# Altium schematic symbol library B39162B3913U410.SchLib: 2 symbols
Pins are listed as number, name and electrical type; pins without a type are passive.

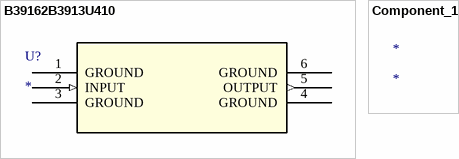
[diagram p0: symbols B39162B3913U410 to Component_1]

## B39162B3913U410
designator U?
No Description Available; Mfr_Name: Qualcomm; RefDes: RefDes; Type: Type
footprint B39162B3913U410_QUA
pins: 1 GROUND (power), 2 INPUT (in), 3 GROUND (power), 4 GROUND (power), 5 OUTPUT (out), 6 GROUND (power)

## Component_1
designator *